# Altium footprint library MC-IMX6Q-BOARD.PcbLib: 56 footprints (part 1 of 4)
Each footprint in its own frame and in the unit in brackets; x right, y up, seen from the top. Pads: shape width x height; smd on the part's side, far side on the other; paste and mask are expansions set on the pad; w line width, h text height; cw(c..) or ccw(c..) is an arc to the next point about the centre after c.
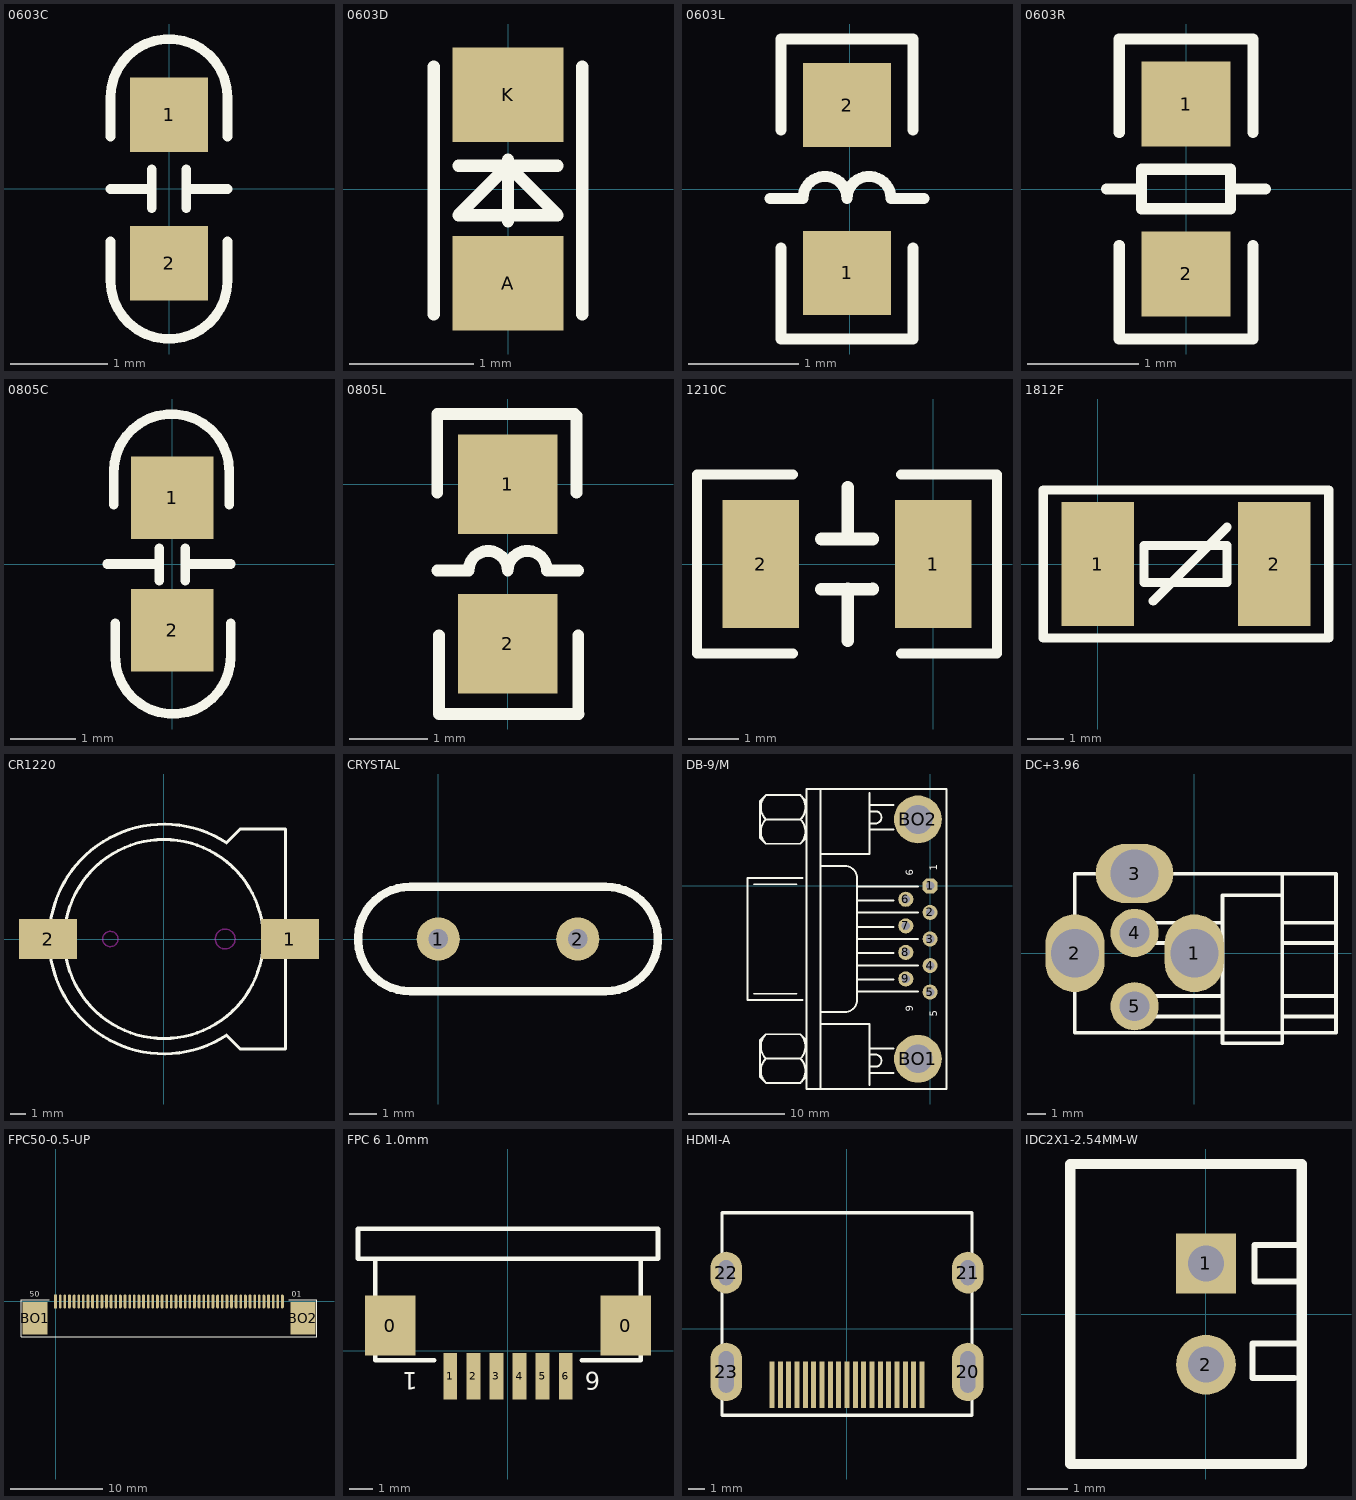
[diagram p0: the footprints below, top view; thin cyan lines are the x and y axes]

## 0603C [mil]
height 53.15
pads (2):
  rect 31.5x30 smd: 1(0,30) 2(0,-30)
Top Overlay:
  lines w3.94: -23.62,-21.18 -23.62,-36.93 ccw(c0,-36.93) 23.62,-36.93 23.62,-21.18 ; -23.62,0 -7.87,0 ; -23.62,21.18 -23.62,36.93 cw(c0,36.93) 23.62,36.93 23.62,21.18 ; -7,-7.75 -7,8 ; 7,-7.75 7,8 ; 7.87,0 23.62,0

## 0603D [mil]
height 53.15
pads (2):
  rect 35.43x30 smd: A(0,-30) K(0,30)
Top Overlay:
  lines w3.94: -23.62,-39.81 -23.62,38.93 ; -15.75,7.43 15.75,7.43 ; 0,-10.28 0,9.4 ; 23.62,-39.81 23.62,38.93 ; -15.75,-8.31 15.75,-8.31 0,7.43 -15.75,-8.31

## 0603L [mm]
height 1.35
pads (2):
  rect 0.8x0.762 smd: 1(-0.023,-0.76) 2(-0.023,0.764)
Top Overlay:
  lines w0.1: -0.723,-0.084 -0.423,-0.084 cw(c-0.223,-0.084) -0.023,-0.084 cw(c0.177,-0.084) 0.377,-0.084 0.677,-0.084 ; -0.623,-0.536 -0.623,-1.36 0.577,-1.36 0.577,-0.536 ; -0.623,0.54 -0.623,1.364 0.577,1.364 0.577,0.54

## 0603R [mil]
pads (2):
  rect 31.5x30 smd: 1(0,30) 2(0,-30)
Top Overlay:
  lines w3.94: -23.59,-20 -23.59,-53 23.66,-53 23.66,-20 ; -23.59,20 -23.59,53 23.66,53 23.66,20 ; -15.71,-7 15.78,-7 15.78,7 -15.71,7 -15.71,-7
  lines w4: -28,0 -15.71,0 ; 15.78,0 28,0

## 0805C [mil]
height 53.15
pads (2):
  rect 50x50 smd: 1(0,40) 2(0,-40)
Top Overlay:
  lines w5.91: -39.37,0 -7.87,0 ; -35.43,35.87 -35.43,55.87 cw(c-0.43,55.87) 34.57,55.87 34.57,35.87 ; -34.57,-35.87 -34.57,-55.87 ccw(c0.43,-55.87) 35.43,-55.87 35.43,-35.87 ; -7.87,-10.12 -7.87,9.57 ; 7.87,-10.12 7.87,9.57 ; 7.87,0 35.43,0

## 0805L [mil]
height 53.15
pads (2):
  rect 50x50 smd: 1(0,0) 2(0,-80)
Top Overlay:
  lines w5: 33.7,35.43 34.57,34.57
  lines w5.91: -35.43,-43.31 -19.68,-43.31 cw(c-9.84,-43.31) 0,-43.31 cw(c9.84,-43.31) 19.68,-43.31 35.43,-43.31 ; -35.43,-4.13 -35.43,15.87 -35.43,35.43 33.7,35.43 ; -34.57,-115.43 35.67,-115.43 ; -34.57,-115.04 -34.57,-95.87 -34.57,-75.87 ; 34.57,-4.13 34.57,15.87 34.57,34.57 ; 35.43,-115.2 35.43,-95.87 35.43,-75.87

## 1210C [mil]
pads (2):
  rect 60x100 smd: 1(0,0) 2(-135,0)
Top Overlay:
  lines w7.87: -110,-70 -185,-70 -185,70 -110,70 ; -25,-70 50,-70 50,70 -25,70
  lines w10: -87.56,-19.76 -47.24,-19.68 ; -87.56,19.61 -47.24,19.68 ; -67,-60 -66.93,-19.68 ; -67,60 -66.93,19.68

## 1812F [mm]
height 1.35
pads (2):
  rect 2x3.4 smd: 1(0,0) 2(4.85,0)
Top Overlay:
  lines w0.254: 1.524,-1.016 3.556,1.016 ; -1.5,-2.032 6.35,-2.032 6.35,2.032 -1.5,2.032 -1.5,-2.032 ; 1.27,-0.508 3.556,-0.508 3.556,0.508 1.27,0.508 1.27,-0.508

## CR1220 [mm]
height 1.35
pads (2):
  rect 3.8x2.6 smd: 1(8.23,0) 2(-7.57,0)
Top Overlay:
  circle w0.2: c0,0 r6.5
  lines w0.152: 5,7.2 5,7.2
  lines w0.2: 4.085,-6.29 cw(c0,0) 4.085,6.29 ; 4.1,-6.3 5,-7.2 7.9,-7.2 ; 4.1,6.3 5,7.2 7.9,7.2 ; 7.94,-7.2 7.94,7.2
Keep-Out Layer:
  circle w0.1: c-3.5,0 r0.5
  circle w0.1: c4,0 r0.65

## CRYSTAL [mil]
height 53.15
pads (2):
  round 62 hole 28: 1(0,0) 2(200,0)
Top Overlay:
  lines w12: -40,-75 cw(c-40,0) -40,75 240,75 cw(c240,0) 240,-75 -40,-75

## DB-9/M [mil]
pads (11):
  oct 62x62 hole 35: 1(0,0)
  round 62 hole 35: 2(0,-109.17) 3(0,-218.33) 4(0,-327.5) 5(0,-436.67) 6(-100,-55) 7(-100,-164.17) 8(-100,-273.33) 9(-100,-382.5)
  round 196.67 hole 118.33: BO1(-50,-710.83) BO2(-50,273.33)
Top Overlay:
  lines w8: -725,-443.33 -550,-443.33 ; -725,6.67 -550,6.67 ; -675.09,-810.09 cw(c-625,-760) -675.09,-709.91 ; -675.09,-710.09 cw(c-625,-660) -675.09,-609.91 ; -675.09,173.25 cw(c-625,223.33) -675.09,273.42 ; -675.09,273.25 cw(c-625,323.33) -675.09,373.42 ; -675,-710 -533.33,-710 ; -675,273.33 -533.33,273.33 ; -533.25,-810.09 ccw(c-583.33,-760) -533.25,-709.91 ; -533.25,-710.09 ccw(c-583.33,-660) -533.25,-609.91 ; -533.25,173.25 ccw(c-583.33,223.33) -533.25,273.42 ; -533.25,273.25 ccw(c-583.33,323.33) -533.25,373.42 ; -525,-468.33 -750,-468.33 -750,31.67 -525,31.67 ; -508.33,-785 -533.33,-810 -675,-810 -700,-785 -700,-635 -675,-610 -533.33,-610 -508.33,-635 ; -508.33,198.33 -533.33,173.33 -675,173.33 -700,198.33 -700,348.33 -675,373.33 -533.33,373.33 -508.33,348.33 ; -450,-835 -450,398.33 ; -450,-568.33 -250,-568.33 -250,-818.33 ; -450,-518.33 -350,-518.33 ccw(c-350,-468.33) -300,-468.33 -300,31.67 ccw(c-350,31.67) -350,81.67 -450,81.67 ; -450,131.67 -250,131.67 -250,381.67 ; -300,-435 -50,-435 ; -300,-385 -150,-385 ; -300,-326.67 -50,-326.67 ; -300,-276.67 -150,-276.67 ; -300,-218.33 -50,-218.33 ; -300,-168.33 -150,-168.33 ; -300,-110 -50,-110 ; -300,-60 -158.33,-60 -150,-60 ; -300,-1.67 -50,-1.67 ; -250,-768.33 -150,-768.33 ; -250,-743.33 -225,-743.33 ccw(c-225,-718.33) -225,-693.33 -250,-693.33 ; -250,-668.33 -150,-668.33 ; -250,231.67 -150,231.67 ; -250,256.67 -225,256.67 ccw(c-225,281.67) -225,306.67 -250,306.67 ; -250,331.67 -150,331.67 ; -508.33,-835 66.67,-835 66.67,398.33 -508.33,398.33 -508.33,-835
  text "6" at -70,41.67 h30
  text "1" at 30,61.67 h30
  text "5" at 30,-538.33 h30
  text "9" at -70,-518.33 h30

## DC+3.96 [mm]
pads (5):
  oval 3.2x4.2 hole 2.6: 1(0,0) 2(-6.45,0)
  oval 4.2x3.2 hole 2.6: 3(-3.228,4.3)
  round 2.6 hole 1.6: 4(-3.228,1.097) 5(-3.228,-2.863)
Top Overlay:
  lines w0.2: -3.228,-3.413 1.522,-3.413 ; -3.228,-2.313 1.522,-2.313 ; -3.228,0.547 1.522,0.547 ; -3.228,1.647 1.522,1.647 ; 4.747,-3.413 7.65,-3.413 ; 4.747,-2.313 7.65,-2.313 ; 4.747,0.547 7.65,0.547 ; 4.747,1.097 4.747,3.137 1.522,3.137 1.522,-4.863 4.75,-4.863 4.75,-2.863 ; 4.747,1.647 7.65,1.647 ; 4.75,-4.3 4.75,4.3 ; -6.45,-4.3 7.65,-4.3 7.65,4.3 -6.45,4.3 -6.45,-4.3

## FPC50-0.5-UP [mm]
height 1.35
pads (52):
  oval 0.3x1.5 smd: 1(24.5,0) 2(24,0) 3(23.5,0) 4(23,0) 5(22.5,0) 6(22,0) 7(21.5,0) 8(21,0) 9(20.5,0) 10(20,0) 11(19.5,0) 12(19,0) 13(18.5,0) 14(18,0) 15(17.5,0) 16(17,0) 17(16.5,0) 18(16,0) 19(15.5,0) 20(15,0) 21(14.5,0) 22(14,0) 23(13.5,0) 24(13,0) 25(12.5,0) 26(12,0) 27(11.5,0) 28(11,0) 29(10.5,0) 30(10,0) 31(9.5,0) 32(9,0) 33(8.5,0) 34(8,0) 35(7.5,0) 36(7,0) 37(6.5,0) 38(6,0) 39(5.5,0) 40(5,0) 41(4.5,0) 42(4,0) 43(3.5,0) 44(3,0) 45(2.5,0) 46(2,0) 47(1.5,0) 48(1,0) 49(0.5,0)
  rect 0.3x1.5 smd: 50(0,0)
  rect 2.7x3.5 smd: BO1(-2.2,-1.825) BO2(26.7,-1.812)
Top Overlay:
  lines w0.127: -0.7,0.175 -3.7,0.175 -3.7,-3.825 28.2,-3.825 28.2,0.175 25.2,0.175
  text "50" at -2.794,0.523 h0.6
  text "01" at 25.516,0.508 h0.6

## FPC 6 1.0mm [mm]
height 1.4
pads (8):
  rect 2.2x2.6 smd: 0(-5.1,1.1) 0(5.1,1.1)
  rect 0.6x2 smd: 1(-2.5,-1.1) 2(-1.5,-1.1) 3(-0.5,-1.1) 4(0.5,-1.1) 5(1.5,-1.1) 6(2.5,-1.1)
Top Overlay:
  lines w0.2: -3.2,-0.4 -5.75,-0.4 -5.75,4 ; 3.2,-0.4 5.75,-0.4 5.75,4 ; -5.75,4 -6.5,4 -6.5,5.3 6.5,5.3 6.5,4 5.75,4 ; -5.75,4 5.75,4
  text "6" at 4.004,-0.915 h0.76
  text "1" at -3.921,-0.915 h0.76

## HDMI-A [mm]
pads (23):
  rect 0.3x2.8 smd: 1(-4.5,-3.36) 2(-4,-3.36) 3(-3.5,-3.36) 4(-3,-3.36) 5(-2.5,-3.36) 6(-2,-3.36) 7(-1.5,-3.36) 8(-1,-3.36) 9(-0.5,-3.36) 10(0,-3.36) 11(0.5,-3.36) 12(1,-3.36) 13(1.5,-3.36) 14(2,-3.36) 15(2.5,-3.36) 16(3,-3.36) 17(3.5,-3.36) 18(4,-3.36) 19(4.5,-3.36)
  oval 1.9x3.5 hole 0.9 slot 2.5 at 90 deg: 20(7.25,-2.6) 23(-7.25,-2.6)
  oval 1.9x2.5 hole 0.9 slot 1.5 at 90 deg: 21(7.25,3.36) 22(-7.25,3.36)
Top Overlay:
  lines w0.2: -7.5,-5.2 7.5,-5.2 7.5,6.95 -7.5,6.95 -7.5,-5.2

## IDC2X1-2.54MM-W [mm]
pads (2):
  rect 1.5x1.5 hole 0.9: 1(0,1.27)
  round 1.5 hole 0.9: 2(0,-1.27)
Top Overlay:
  lines w0.152: 2.222,-1.6 1.168,-1.6 1.168,-0.737 2.349,-0.737 ; 2.273,0.813 1.219,0.813 1.219,1.727 2.4,1.727
  lines w0.254: -3.4,-3.76 -3.4,3.76 2.4,3.76 2.4,-3.76 -3.4,-3.76